# Altium schematic symbol library ESD.SchLib: 10 symbols
Pins are listed as number, name and electrical type; pins without a type are passive.

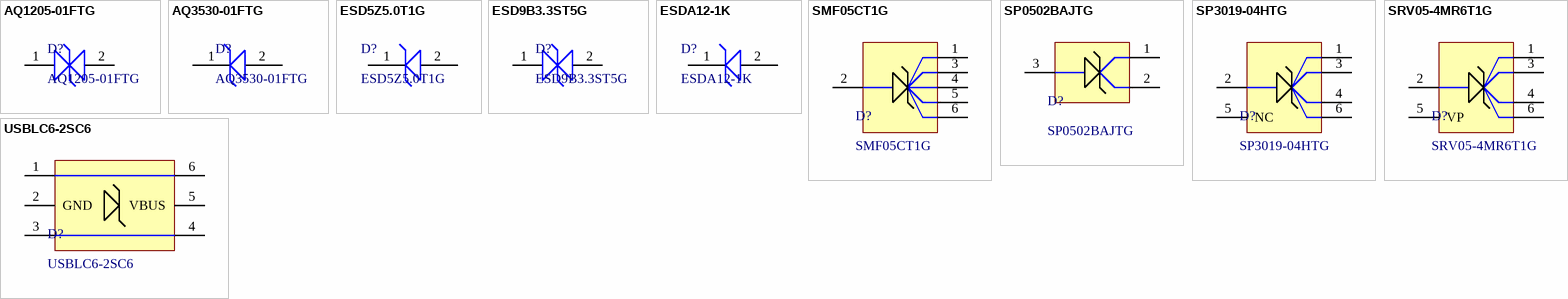
[diagram p0: symbols AQ1205-01FTG to USBLC6-2SC6]

## AQ1205-01FTG
designator D?
ESD Suppressors / TVS Diodes 5V 7A 30kV SOD323 Bi-dir TVS; Manufacturer: Littelfuse; Breakdown Voltage: 5.1V; Clamping Voltage: 10V; Diode Capacitance: 7pF; Number of Channels: 1; ComponentLink1Description: Datasheet; ComponentLink1URL: https://www.mouser.vn/datasheet/2/240/media-3320499.pdf; Operating Temperature: -40 - 150; Peak Pulse Current: 7A; Peak Pulse Power Dissipation: N/A; Voltage ESD Air Gap: 30kV; Voltage ESD Contact: 30kV; Working Voltage: 5V; Supplier 1 URL: https://www.mouser.vn/ProductDetail/Littelfuse/AQ1205-01FTG?qs=tlsG%2FOw5FFgT817I6cPGrg%3D%3D; Supplier 2 URL: https://www.digikey.com/en/products/detail/littelfuse-inc/aq1205-01ftg/17128325; Supplier 3 URL: N/A; LCSC Part #: N/A; Manufacturer Part Number: AQ1205-01FTG; Mount: SMD/SMT; Operating Temperature Max: + 85 C; Operating Temperature Min: - 40 C; Packaging: Tape and Reel; Supplier 1: Mouser; Supplier 1 Part Number: 576-AQ1205-01FTG; Supplier 2: Digi-Key; Supplier 2 Part Number: 18-AQ1205-01FTGTR-ND; Supplier 3: thegioiic; Supplier 3 Part Number: N/A; Value: AQ1205-01FTG
footprint SOD323 (TSOP, 2-Leads, Body 1.30x1.70mm, Pitch 0.65mm, IPC Medium Density)
pins: 1, 2

## AQ3530-01FTG
designator D?
ESD Suppressors / TVS Diodes 5V 2.5A 22KV UNI-DIR; Manufacturer: Littelfuse; Breakdown Voltage: 7.5V; Clamping Voltage: 15V; Diode Capacitance: 0.3pF; Number of Channels: 1; Voltage ESD Contact: 30kV; ComponentLink1Description: Datasheet; ComponentLink1URL: https://www.mouser.vn/datasheet/2/240/media-3319807.pdf; Operating Temperature: -40 - 150; Peak Pulse Current: N/A; Peak Pulse Power Dissipation: N/A; Voltage ESD Air Gap: 22kV; Working Voltage: 5V; Supplier 1 URL: https://www.mouser.vn/ProductDetail/Littelfuse/AQ3530-01FTG?qs=yqaQSyyJnNi2YblDWyDyIw%3D%3D; Supplier 2 URL: https://www.digikey.com/en/products/detail/littelfuse-inc/aq3530-01ftg/13168732; Supplier 3 URL: N/A; LCSC Part #: C19626363; Manufacturer Part Number: AQ3530-01FTG; Mount: SMD/SMT; Operating Temperature Max: + 85 C; Operating Temperature Min: - 40 C; Packaging: Tape and Reel; Supplier 1: Mouser; Supplier 1 Part Number: 576-AQ3530-01FTG; Supplier 2: Digi-Key; Supplier 2 Part Number: 18-AQ3530-01FTGTR-ND; Supplier 3: thegioiic; Supplier 3 Part Number: N/A; Value: AQ3530-01FTG
footprint SOD323 (TSOP, 2-Leads, Body 1.30x1.70mm, Pitch 0.65mm, IPC Medium Density)
pins: 1, 2

## ESD5Z5.0T1G
designator D?
ESD Suppressors / TVS Diodes SOD523 ESD DIODE; Manufacturer: onsemi; Breakdown Voltage: 6.2 V; Clamping Voltage: 18.6 V; Diode Capacitance: 80 pF; Number of Channels: 1; Peak Pulse Current: 9.4 A; Peak Pulse Power Dissipation: 174 W; Voltage ESD Air Gap: 30 kV; Working Voltage: 5 V; ComponentLink1Description: Datasheet; ComponentLink1URL: https://www.mouser.com/datasheet/2/308/1/ESD5Z2_5T1_D-2311718.pdf; Operating Temperature: -40 - 150; Voltage ESD Contact: 30 kV; Supplier 1 URL: https://www.mouser.vn/ProductDetail/onsemi/ESD5Z5.0T1G?qs=OSf9jACorvYw3fDx1S8P6A%3D%3D; Supplier 2 URL: N/A; Supplier 3 URL: N/A; LCSC Part #: C82044; Manufacturer Part Number: ESD5Z5.0T1G; Mount: SMD/SMT; Operating Temperature Max: + 125 C; Operating Temperature Min: - 55 C; Packaging: Tape and Reel; Supplier 1: Mouser; Supplier 1 Part Number: 863-ESD5Z5.0T1G; Supplier 2: Digi-Key; Supplier 2 Part Number: N/A; Supplier 3: thegioiic; Supplier 3 Part Number: N/A; Value: ESD5Z5.0T1G
footprint SOD-523 (SODFL, 2-Leads, Body 0.80x1.60mm, IPC Medium Density)
pins: 1, 2

## ESD9B3.3ST5G
designator D?
ESD Suppressors / TVS Diodes ESD PROTCT BIDIRCTNL SOD923; Manufacturer: onsemi; Breakdown Voltage: 5 V; Clamping Voltage: 10.5 V; Diode Capacitance: 15 pF; Number of Channels: 1; Peak Pulse Current: 1 A; Peak Pulse Power Dissipation: 35 W; Voltage ESD Air Gap: 18 kV; Working Voltage: 3.3 V; ComponentLink1Description: Datasheet; ComponentLink1URL: https://www.mouser.vn/datasheet/2/240/media-3320499.pdf; Operating Temperature: -40 - 150; Voltage ESD Contact: 18 kV; Supplier 1 URL: https://www.mouser.vn/ProductDetail/Littelfuse/AQ1205-01FTG?qs=tlsG%2FOw5FFgT817I6cPGrg%3D%3D; Supplier 2 URL: N/A; Supplier 3 URL: N/A; LCSC Part #: C96512; Manufacturer Part Number: ESD9B3.3ST5G; Mount: SMD/SMT; Operating Temperature Max: + 125 C; Operating Temperature Min: - 55 C; Packaging: Tape and Reel; Supplier 1: Mouser; Supplier 1 Part Number: 863-ESD9B3.3ST5G; Supplier 2: Digi-Key; Supplier 2 Part Number: N/A; Supplier 3: thegioiic; Supplier 3 Part Number: N/A; Value: ESD9B3.3ST5G
footprint SOD-923 (SODFL, 2-Leads, Body 0.60x1.00mm, IPC Medium Density)
pins: 1, 2

## ESDA12-1K
designator D?
ESD Suppressors / TVS Diodes EOS ESD Transil 450W 12V, 18V 150pF; Manufacturer: STMicroelectronics; Clamping Voltage: 28 V; Number of Channels: 1; Peak Pulse Current: 16 A; Voltage ESD Air Gap: 15 kV; Voltage ESD Contact: 8 kV; Working Voltage: 10 V; Breakdown Voltage: 12 V; ComponentLink1Description: Datasheet; ComponentLink1URL: https://www.mouser.com/datasheet/2/308/1/ESD5Z2_5T1_D-2311718.pdf; Diode Capacitance: 150 pF; Operating Temperature: -40 - 150; Peak Pulse Power Dissipation: 450 W; Supplier 1 URL: https://www.mouser.com/ProductDetail/STMicroelectronics/ESDA12-1K?qs=raAh8RbVwI6OxdPIyEiuSA%3D%3D; Supplier 2 URL: N/A; Supplier 3 URL: N/A; LCSC Part #: C1973699; Manufacturer Part Number: ESDA12-1K; Mount: SMD/SMT; Operating Temperature Max: + 125 C; Operating Temperature Min: - 55 C; Packaging: Tape and Reel; Supplier 1: Mouser; Supplier 1 Part Number: 511-ESDA12-1K; Supplier 2: Digi-Key; Supplier 2 Part Number: N/A; Supplier 3: thegioiic; Supplier 3 Part Number: N/A; Value: ESDA12-1K
footprint SOD-523 (SODFL, 2-Leads, Body 0.80x1.60mm, IPC Medium Density)
pins: 1, 2

## SMF05CT1G
designator D?
SC−88 FIVE SURGE PROTECTION 100 W PEAK POWER; Manufacturer: onsemi; Number of Channels: 5; Working Voltage: 5V; Clamping Voltage: 12.5V; Breakdown Voltage: 6.2V; Peak Pulse Current: 8A; Peak Pulse Power Dissipation: 100W; Voltage ESD Contact: 15kV; Diode Capacitance: 5pF; Operating Temperature: -40 - 125; Voltage ESD Air Gap: 15kV; ComponentLink1Description: Datasheet; ComponentLink1URL: https://www.mouser.vn/datasheet/2/308/1/SMF05C_D-2319973.pdf; Supplier 1 URL: https://www.mouser.vn/ProductDetail/onsemi/SMF05CT1G?qs=xZq1yRCsb1c8sZHBbx4IBw%3D%3D; Supplier 2 URL: https://www.digikey.com/en/products/detail/onsemi/smf05ct1g/921631; Supplier 3 URL: https://www.thegioiic.com/smf05c-esd-protection-diode-array-sot-363; LCSC Part #: N/A; Manufacturer Part Number: SMF05CT1G; Mount: SMD/SMT; Operating Temperature Max: + 85 C; Operating Temperature Min: - 40 C; Packaging: Tape and Reel; Supplier 1: Mouser; Supplier 1 Part Number: 863-SMF05CT1G; Supplier 2: Digi-Key; Supplier 2 Part Number: SMF05CT1GOSTR-ND; Supplier 3: thegioiic; Supplier 3 Part Number: N/A; Value: SMF05CT1G
footprint SMF05CT1_SOT23 (SOT23, 6-Leads, Body 2.00x2.10mm, Pitch 0.65mm, IPC Medium Density)
pins: 1, 2, 3, 4, 5, 6

## SP0502BAJTG
designator D?
ESD Suppressors / TVS Diodes 2 Channel SMT array SC70; Manufacturer: Littelfuse; Breakdown Voltage: 6V; Clamping Voltage: 12V; Diode Capacitance: 1pF; Number of Channels: 2; Peak Pulse Current: 2A; Peak Pulse Power Dissipation: 25W; Voltage ESD Air Gap: 15kV; Voltage ESD Contact: 20kV; Working Voltage: 5V; ComponentLink1Description: Datasheet; ComponentLink1URL: https://www.mouser.vn/datasheet/2/240/media-3319443.pdf; Operating Temperature: -40 - 125; Supplier 1 URL: https://www.mouser.vn/ProductDetail/Littelfuse/SP0502BAJTG?qs=RnOBYWd%2Fz7cttN1Mwg4HWA%3D%3D; Supplier 2 URL: https://www.digikey.com/en/products/detail/littelfuse-inc/sp0502bajtg/1210793; Supplier 3 URL: N/A; LCSC Part #: C207262; Manufacturer Part Number: SP0502BAJTG; Mount: SMD/SMT; Operating Temperature Max: + 85 C; Operating Temperature Min: - 40 C; Packaging: Tape and Reel; Supplier 1: Mouser; Supplier 1 Part Number: 576-SP0502BAJTG; Supplier 2: Digi-Key; Supplier 2 Part Number: F3158TR-ND; Supplier 3: thegioiic; Supplier 3 Part Number: N/A; Value: SP0502BAJTG
footprint SP03_SOT23 (SOT23, 3-Leads, Body 2.93x2.37mm, Pitch 0.95mm, IPC Medium Density)
pins: 1, 2, 3

## SP3019-04HTG
designator D?
ESD Suppressors / TVS Diodes 0.3pF SOT23-6L 4 Ch Diode Array; Manufacturer: Littelfuse; Breakdown Voltage: 8.2V; Clamping Voltage: 11.5V; Number of Channels: 4; Peak Pulse Current: 2.5A; Voltage ESD Air Gap: 15kV; Working Voltage: 5V; ComponentLink1Description: Datasheet; ComponentLink1URL: https://www.mouser.vn/datasheet/2/240/media-3323684.pdf; Diode Capacitance: 0.3pF; Operating Temperature: -40 - 125; Peak Pulse Power Dissipation: N/A; Voltage ESD Contact: 15kV; Supplier 1 URL: https://www.mouser.vn/ProductDetail/Littelfuse/SP3019-04HTG?qs=chTDxNqvsykDkkNIkCeKfg%3D%3D; Supplier 2 URL: https://www.digikey.com/en/products/detail/littelfuse-inc/sp3019-04htg/8123981; Supplier 3 URL: N/A; LCSC Part #: N/A; Manufacturer Part Number: SP3019-04HTG; Mount: SMD/SMT; Operating Temperature Max: + 85 C; Operating Temperature Min: - 40 C; Packaging: Tape and Reel; Supplier 1: Mouser; Supplier 1 Part Number: 576-SP3019-04HTG; Supplier 2: Digi-Key; Supplier 2 Part Number: F10979TR-ND; Supplier 3: thegioiic; Supplier 3 Part Number: N/A; Value: SP3019-04HTG
footprint SOT23-6L (SOT23, 6-Leads, Body 2.90x2.80mm, Pitch 0.95mm, IPC Medium Density)
pins: 1, 2, 3, 4, 5 NC, 6

## SRV05-4MR6T1G
designator D?
ESD Suppressors / TVS Diodes LOW CAP TSOP-6 SMB SPCL; Manufacturer: onsemi; Breakdown Voltage: 6V; Clamping Voltage: 17.5V; Diode Capacitance: 5pF; Number of Channels: 4; Peak Pulse Current: 5A; Peak Pulse Power Dissipation: 300W; Voltage ESD Air Gap: 30kV; Working Voltage: 5V; ComponentLink1Description: Datasheet; ComponentLink1URL: https://www.mouser.vn/datasheet/2/308/1/SRV05_4_D-2320033.pdf; Operating Temperature: -40 - 125; Voltage ESD Contact: 30kV; Supplier 1 URL: https://www.mouser.vn/ProductDetail/onsemi/SRV05-4MR6T1G?qs=unWjWFgkqcg61n2fM3DdZg%3D%3D; Supplier 2 URL: https://www.digikey.com/en/products/detail/onsemi/srv05-4mr6t1g/2652020; Supplier 3 URL: N/A; LCSC Part #: C2901302; Manufacturer Part Number: SRV05-4MR6T1G; Mount: SMD/SMT; Operating Temperature Max: + 85 C; Operating Temperature Min: - 40 C; Packaging: Tape and Reel; Supplier 1: Mouser; Supplier 1 Part Number: 863-SRV05-4MR6T1G; Supplier 2: Digi-Key; Supplier 2 Part Number: 488-SRV05-4MR6T1GTR-ND; Supplier 3: thegioiic; Supplier 3 Part Number: N/A; Value: SRV05-4MR6T1G
footprint TSOP6 (TSOP, 6-Leads, Body 3.00x1.50mm, Pitch 0.95mm, IPC Medium Density)
pins: 1, 2, 3, 4, 5 VP, 6

## USBLC6-2SC6
designator D?
ESD Suppressors / TVS Diodes ESD Protection Low Cap; Manufacturer: STMicroelectronics; Breakdown Voltage: 6V; Clamping Voltage: 17V; Diode Capacitance: 3.5pF; Number of Channels: 2; Peak Pulse Current: 5A; Voltage ESD Air Gap: 15kV; Working Voltage: 5.25V; ComponentLink1Description: Datasheet; ComponentLink1URL: https://www.mouser.vn/datasheet/2/389/usblc6_2-1852789.pdf; Operating Temperature: -40 - 125; Peak Pulse Power Dissipation: N/A; Voltage ESD Contact: 15kV; Supplier 1 URL: https://www.mouser.vn/ProductDetail/STMicroelectronics/USBLC6-2SC6?qs=po45yt2pPpu%2FhNIlwQdTlg%3D%3D; Supplier 2 URL: https://www.digikey.com/en/products/detail/stmicroelectronics/usblc6-2sc6/1040559; Supplier 3 URL: N/A; LCSC Part #: C2827654; Manufacturer Part Number: USBLC6-2SC6; Mount: SMD/SMT; Operating Temperature Max: + 85 C; Operating Temperature Min: - 40 C; Packaging: Tape and Reel; Supplier 1: Mouser; Supplier 1 Part Number: 511-USBLC6-2SC6; Supplier 2: Digi-Key; Supplier 2 Part Number: 497-5235-2-ND; Supplier 3: thegioiic; Supplier 3 Part Number: N/A; Value: USBLC6-2SC6
footprint SOT23-6L (SOT23, 6-Leads, Body 2.90x2.80mm, Pitch 0.95mm, IPC Medium Density)
pins: 1, 2 GND, 3, 4, 5 VBUS, 6